# EAGLE library part LTC3526LEDCPBF (library LTC3526LEDCPBF)
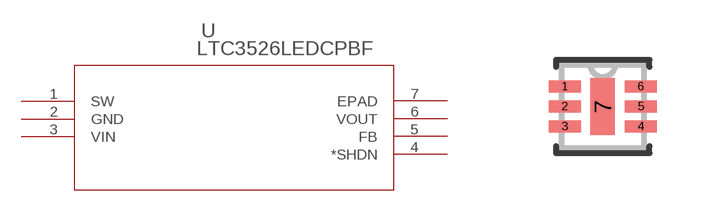
[diagram p0: symbol with the pads of DFN-6_DC; footprint DFN-6_DC]

Designator prefix U

## LTC3526LEDCPBF (Availability: Unavailable; Description: LTC3526L/LTC3526LB - 550mA 1MHz Synchronous Step-Up DC/DC Converters in 2mm × 2mm DFN; MF: Linear Technology; MP: LTC3526LEDC#PBF; Package: DFN-6 Linear Technology; Price: None)  [DFN-6_DC]
1  SW  pas
2  GND  pwr
3  VIN  in
4  *SHDN  in
5  FB  in
6  VOUT  out
7  EPAD  pas

## Footprint DFN-6_DC (pad centres in mm)
smd 0.805 x 0.3: 1 -0.952,0.5; 2 -0.952,0; 3 -0.952,-0.5; 4 0.952,-0.5; 5 0.952,0; 6 0.952,0.5
smd 0.61 x 1.42: 7 0,0